# Altium schematic symbol library MORNSUN_K78XXJT-500R3-LB.SchLib: 1 symbol
Pins are listed as number, name and electrical type; pins without a type are passive.

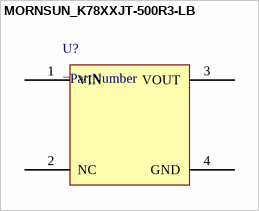
[diagram p0: symbol MORNSUN_K78XXJT-500R3-LB]

## MORNSUN_K78XXJT-500R3-LB
designator U?
pins: 1 VIN, 2 NC, 3 VOUT, 4 GND